# Altium integrated library BMI-S-206-F.IntLib: 1 symbol
Pins are listed as number, name and electrical type; pins without a type are passive.

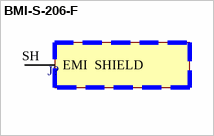
[diagram p0: symbol BMI-S-206-F]

## BMI-S-206-F
designator J?
RF Shield Frame 1.326 (33.68mm) X 1.450 (36.83mm) Surface Mount; MF: Laird Technologies EMI; MP: BMI-S-206-F; Package: LFCSP-8 Laird; Price: None; Check_prices: https://www.snapeda.com/parts/BMI-S-206-F/Laird/view-part/?ref=eda; Value: *; SnapEDA_Link: https://www.snapeda.com/parts/BMI-S-206-F/Laird/view-part/?ref=snap; Availability: In Stock; Purchase-URL: https://pricing.snapeda.com/search?q=BMI-S-206-F&ref=eda
footprint LAIRD_BMI-S-206-F
pins: SH EMI  SHIELD 